# Altium schematic symbol library HerosLib.SchLib: 177 symbols (part 7 of 10)
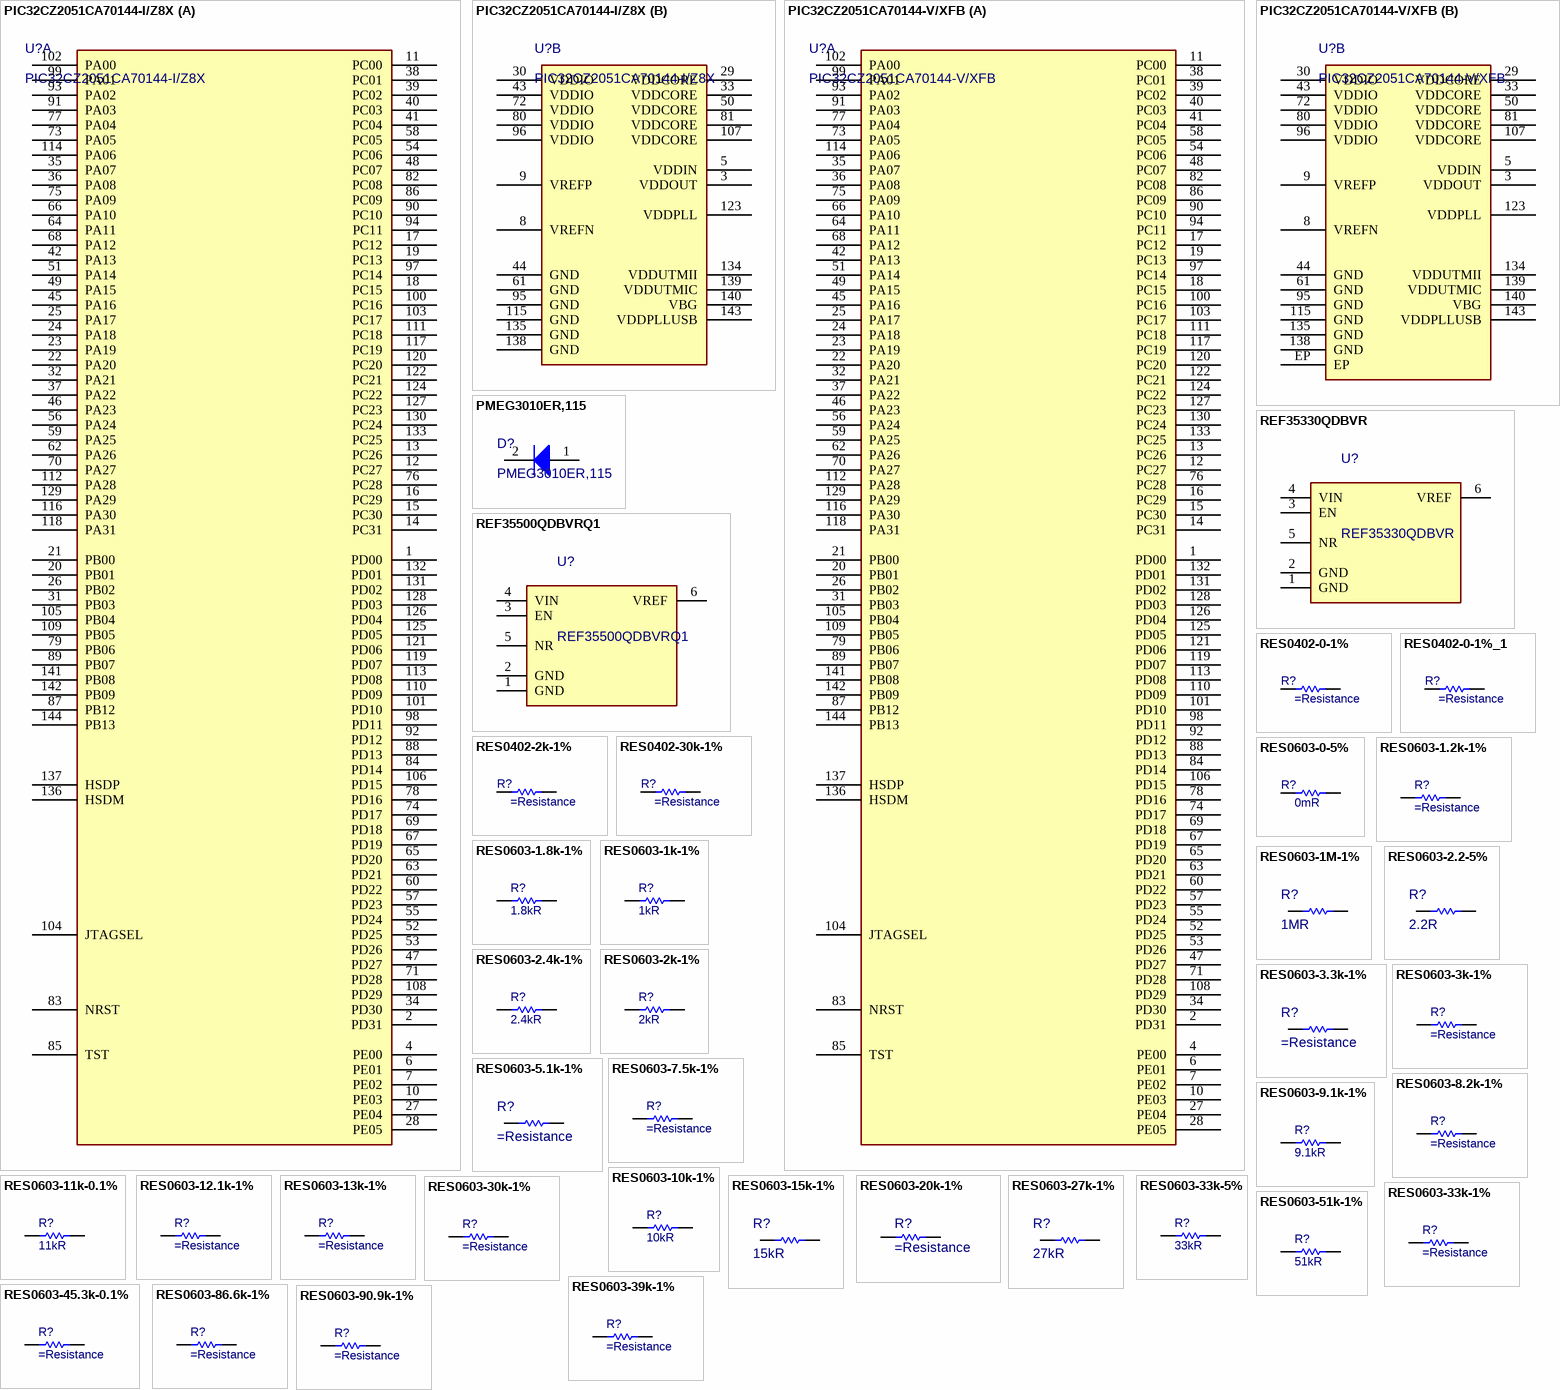
[diagram p14: symbols PIC32CZ2051CA70144-I/Z8X to RES0603-90.9k-1%]

## RES0603-10k-1%
designator R?, comment 10kR
RES SMD 10K OHM 1% 1/10W 0603; Manufacturer: Bourns; Manufacturer Part Number: CR0603-FX-1002ELF; Temperature Coefficient: 100ppm/°C; Max Power Dissipation: 100mW; Voltage Rating: 50V; ComponentLink1URL: https://datasheet.ciiva.com/9122/chpreztr-9122363.pdf; ComponentLink1Description: https://datasheet.ciiva.com/9122/chpreztr-9122363.pdf; ComponentLink2URL: https://datasheet.ciiva.com/22713/691949-22713239.pdf?src-supplier=Element14; ComponentLink2Description: https://datasheet.ciiva.com/22713/691949-22713239.pdf?src-supplier=Element14; ComponentLink3URL: https://datasheet.ciiva.com/23776/1902866-23776391.pdf?src-supplier=Newark; ComponentLink3Description: https://datasheet.ciiva.com/23776/1902866-23776391.pdf?src-supplier=Newark; ComponentLink4URL: https://datasheet.ciiva.com/16766/70154685-16766760.pdf?src-supplier=Allied+Electronics; ComponentLink4Description: https://datasheet.ciiva.com/16766/70154685-16766760.pdf?src-supplier=Allied+Electronics; ComponentLink5URL: https://datasheet.ciiva.com/30229/159chpreztr-30229129.pdf?src-supplier=Onlinecomponents.com; ComponentLink5Description: https://datasheet.ciiva.com/30229/159chpreztr-30229129.pdf?src-supplier=Onlinecomponents.com; ComponentLink6URL: https://datasheet.ciiva.com/16935/chpreztr-16935963.pdf?src-supplier=Avnet+Europe; ComponentLink6Description: https://datasheet.ciiva.com/16935/chpreztr-16935963.pdf?src-supplier=Avnet+Europe; ComponentLink7URL: https://datasheet.ciiva.com/5543/chpreztr-5543676.pdf?src-supplier=Mouser; ComponentLink7Description: https://datasheet.ciiva.com/5543/chpreztr-5543676.pdf?src-supplier=Mouser; ComponentLink8URL: https://datasheet.ciiva.com/9120/chpreztr-9120764.pdf?src-supplier=Avnet; ComponentLink8Description: https://datasheet.ciiva.com/9120/chpreztr-9120764.pdf?src-supplier=Avnet; ComponentLink9URL: https://datasheet.ciiva.com/46383/1791942-46383790.pdf?src-supplier=Element14; ComponentLink9Description: https://datasheet.ciiva.com/46383/1791942-46383790.pdf?src-supplier=Element14; ComponentLink10URL: https://datasheet.ciiva.com/48692/001055501-da-01-en-smd-wid-cr0603-jw-104elf-100k-ohm-1-10w-48692133.pdf?src-supplier=Conrad; ComponentLink10Description: https://datasheet.ciiva.com/48692/001055501-da-01-en-smd-wid-cr0603-jw-104elf-100k-ohm-1-10w-48692133.pdf?src-supplier=Conrad; ComponentLink11URL: https://datasheet.ciiva.com/39121/775172-39121475.pdf?src-supplier=Jameco; ComponentLink11Description: https://datasheet.ciiva.com/39121/775172-39121475.pdf?src-supplier=Jameco; ComponentLink12URL: https://datasheet.ciiva.com/30052/159chpreztr-30052709.pdf?src-supplier=Onlinecomponents.com; ComponentLink12Description: https://datasheet.ciiva.com/30052/159chpreztr-30052709.pdf?src-supplier=Onlinecomponents.com; ComponentLink13URL: https://datasheet.ciiva.com/16935/chpreztr-16935910.pdf?src-supplier=Avnet+Europe; ComponentLink13Description: https://datasheet.ciiva.com/16935/chpreztr-16935910.pdf?src-supplier=Avnet+Europe; ComponentLink14URL: https://datasheet.ciiva.com/46383/1791942-46383767.pdf?src-supplier=Element14; ComponentLink14Description: https://datasheet.ciiva.com/46383/1791942-46383767.pdf?src-supplier=Element14; ComponentLink15URL: https://datasheet.ciiva.com/7986/1902866-7986185.pdf?src-supplier=Element14; ComponentLink15Description: https://datasheet.ciiva.com/7986/1902866-7986185.pdf?src-supplier=Element14; ComponentLink16URL: https://datasheet.ciiva.com/6547/chpreztr-6547278.pdf?src-supplier=Digi-Key; ComponentLink16Description: https://datasheet.ciiva.com/6547/chpreztr-6547278.pdf?src-supplier=Digi-Key; ComponentLink17URL: https://datasheet.ciiva.com/6547/chpreztr-6547279.pdf?src-supplier=Digi-Key; ComponentLink17Description: https://datasheet.ciiva.com/6547/chpreztr-6547279.pdf?src-supplier=Digi-Key; ComponentLink18URL: https://datasheet.ciiva.com/16757/70154685-16757477.pdf?src-supplier=Allied+Electronics; ComponentLink18Description: https://datasheet.ciiva.com/16757/70154685-16757477.pdf?src-supplier=Allied+Electronics; ComponentLink19URL: https://datasheet.ciiva.com/22713/691949-22713237.pdf?src-supplier=Element14; ComponentLink19Description: https://datasheet.ciiva.com/22713/691949-22713237.pdf?src-supplier=Element14; ComponentLink20URL: https://datasheet.ciiva.com/6564/chpreztr-6564439.pdf?src-supplier=Digi-Key; ComponentLink20Description: https://datasheet.ciiva.com/6564/chpreztr-6564439.pdf?src-supplier=Digi-Key; ComponentLink21URL: https://datasheet.ciiva.com/16935/chpreztr-16935928.pdf?src-supplier=Avnet+Europe; ComponentLink21Description: https://datasheet.ciiva.com/16935/chpreztr-16935928.pdf?src-supplier=Avnet+Europe; ComponentLink22URL: https://datasheet.ciiva.com/6564/chpreztr-6564441.pdf?src-supplier=Digi-Key; ComponentLink22Description: https://datasheet.ciiva.com/6564/chpreztr-6564441.pdf?src-supplier=Digi-Key; ComponentLink23URL: https://datasheet.ciiva.com/9123/chpreztr-9123706.pdf?src-supplier=Avnet; ComponentLink23Description: https://datasheet.ciiva.com/9123/chpreztr-9123706.pdf?src-supplier=Avnet; ComponentLink24URL: https://datasheet.ciiva.com/7986/1902866-7986188.pdf?src-supplier=Element14; ComponentLink24Description: https://datasheet.ciiva.com/7986/1902866-7986188.pdf?src-supplier=Element14; ComponentLink25URL: https://datasheet.ciiva.com/46383/691949-46383788.pdf?src-supplier=Element14; ComponentLink25Description: https://datasheet.ciiva.com/46383/691949-46383788.pdf?src-supplier=Element14; ComponentLink26URL: https://datasheet.ciiva.com/11808/0900766b80fcdb72-11808035.pdf?src-supplier=RSComponents; ComponentLink26Description: https://datasheet.ciiva.com/11808/0900766b80fcdb72-11808035.pdf?src-supplier=RSComponents; ComponentLink27URL: https://datasheet.ciiva.com/19466/774882-19466523.pdf?src-supplier=Jameco; ComponentLink27Description: https://datasheet.ciiva.com/19466/774882-19466523.pdf?src-supplier=Jameco; ComponentLink28URL: https://datasheet.ciiva.com/6547/chpreztr-6547349.pdf?src-supplier=Digi-Key; ComponentLink28Description: https://datasheet.ciiva.com/6547/chpreztr-6547349.pdf?src-supplier=Digi-Key; ComponentLink29URL: https://datasheet.ciiva.com/16941/chpreztr-16941637.pdf?src-supplier=Avnet+Europe; ComponentLink29Description: https://datasheet.ciiva.com/16941/chpreztr-16941637.pdf?src-supplier=Avnet+Europe; ComponentLink30URL: https://datasheet.ciiva.com/22693/1902866-22693205.pdf?src-supplier=Element14; ComponentLink30Description: https://datasheet.ciiva.com/22693/1902866-22693205.pdf?src-supplier=Element14; ComponentLink31URL: https://datasheet.ciiva.com/6547/chpreztr-6547350.pdf?src-supplier=Digi-Key; ComponentLink31Description: https://datasheet.ciiva.com/6547/chpreztr-6547350.pdf?src-supplier=Digi-Key; ComponentLink32URL: https://datasheet.ciiva.com/7001/1902866-7001622.pdf?src-supplier=Newark; ComponentLink32Description: https://datasheet.ciiva.com/7001/1902866-7001622.pdf?src-supplier=Newark; ComponentLink33URL: https://datasheet.ciiva.com/30115/159chpreztr-30115222.pdf?src-supplier=Onlinecomponents.com; ComponentLink33Description: https://datasheet.ciiva.com/30115/159chpreztr-30115222.pdf?src-supplier=Onlinecomponents.com; ComponentLink34URL: https://datasheet.ciiva.com/6547/chpreztr-6547351.pdf?src-supplier=Digi-Key; ComponentLink34Description: https://datasheet.ciiva.com/6547/chpreztr-6547351.pdf?src-supplier=Digi-Key; ComponentLink35URL: https://datasheet.ciiva.com/16757/70154685-16757482.pdf?src-supplier=Allied+Electronics; ComponentLink35Description: https://datasheet.ciiva.com/16757/70154685-16757482.pdf?src-supplier=Allied+Electronics; ComponentLink36URL: https://datasheet.ciiva.com/5546/chpreztr-5546283.pdf?src-supplier=Mouser; ComponentLink36Description: https://datasheet.ciiva.com/5546/chpreztr-5546283.pdf?src-supplier=Mouser; ComponentLink37URL: https://datasheet.ciiva.com/7986/691949-7986156.pdf?src-supplier=Element14; ComponentLink37Description: https://datasheet.ciiva.com/7986/691949-7986156.pdf?src-supplier=Element14; ComponentLink38URL: https://datasheet.ciiva.com/3255/chpreztr-3255917.pdf?src-supplier=Avnet; ComponentLink38Description: https://datasheet.ciiva.com/3255/chpreztr-3255917.pdf?src-supplier=Avnet; ComponentLink39URL: https://datasheet.ciiva.com/5547/chpreztr-5547814.pdf?src-supplier=Mouser; ComponentLink39Description: https://datasheet.ciiva.com/5547/chpreztr-5547814.pdf?src-supplier=Mouser; ComponentLink40URL: https://datasheet.ciiva.com/18594/chpreztr-18594942.pdf?src-supplier=Digi-Key; ComponentLink40Description: https://datasheet.ciiva.com/18594/chpreztr-18594942.pdf?src-supplier=Digi-Key; ComponentLink41URL: https://datasheet.ciiva.com/18594/chpreztr-18594943.pdf?src-supplier=Digi-Key; ComponentLink41Description: https://datasheet.ciiva.com/18594/chpreztr-18594943.pdf?src-supplier=Digi-Key; ComponentLink42URL: https://datasheet.ciiva.com/18608/chpreztr-18608133.pdf?src-supplier=Digi-Key; ComponentLink42Description: https://datasheet.ciiva.com/18608/chpreztr-18608133.pdf?src-supplier=Digi-Key; ComponentLink43URL: https://datasheet.ciiva.com/18608/chpreztr-18608134.pdf?src-supplier=Digi-Key; ComponentLink43Description: https://datasheet.ciiva.com/18608/chpreztr-18608134.pdf?src-supplier=Digi-Key; ComponentLink44URL: https://datasheet.ciiva.com/16939/chpreztr-16939323.pdf?src-supplier=Avnet+Europe; ComponentLink44Description: https://datasheet.ciiva.com/16939/chpreztr-16939323.pdf?src-supplier=Avnet+Europe; ComponentLink45URL: https://datasheet.ciiva.com/5541/chpreztr-5541071.pdf?src-supplier=Mouser; ComponentLink45Description: https://datasheet.ciiva.com/5541/chpreztr-5541071.pdf?src-supplier=Mouser; Supplier 1: Digi-Key; RoHS: Yes; Category: Chip SMD Resistors; Stock 1: 7049; Pricing 1: 1=0,10000, 10=0,01600, 100=0,00650, 1000=0,00292, 2500=0,00253 (USD); Mount: Surface Mount; Case/Package: 0603; Number of Pins: 2; Contact Plating: Tin; Case Code (Metric): 1608; Case Code (Imperial): 0603; Min Operating Temperature: -55°C; Max Operating Temperature: 155°C; Tolerance: 1%; Resistance: 10kR; Composition: Thick Film; Features: Moisture Resistant; Packaging: Tape and Reel; Power Rating: 100mW; Package Quantity: 5000; Voltage Rating (DC): 50V; Number of Terminations: 2; Termination: SMD/SMT; Military Standard: Not; Length: 1.6mm; Height: 0.45mm; Width: 0.8mm; Thickness: 457um; Depth: 0.8mm; Radiation Hardening: No; REACH SVHC: No SVHC; ComponentLink46URL: https://datasheet.ciiva.com/11808/0900766b80fcdb72-11808032.pdf?src-supplier=RSComponents; ComponentLink46Description: https://datasheet.ciiva.com/11808/0900766b80fcdb72-11808032.pdf?src-supplier=RSComponents; ComponentLink47URL: https://datasheet.ciiva.com/27049/774903-27049975.pdf?src-supplier=Jameco; ComponentLink47Description: https://datasheet.ciiva.com/27049/774903-27049975.pdf?src-supplier=Jameco; ComponentLink48URL: https://datasheet.ciiva.com/22693/1902866-22693206.pdf?src-supplier=Element14; ComponentLink48Description: https://datasheet.ciiva.com/22693/1902866-22693206.pdf?src-supplier=Element14; ComponentLink49URL: https://datasheet.ciiva.com/7001/1902866-7001623.pdf?src-supplier=Newark; ComponentLink49Description: https://datasheet.ciiva.com/7001/1902866-7001623.pdf?src-supplier=Newark; ComponentLink50URL: https://datasheet.ciiva.com/16757/70154685-16757483.pdf?src-supplier=Allied+Electronics; ComponentLink50Description: https://datasheet.ciiva.com/16757/70154685-16757483.pdf?src-supplier=Allied+Electronics; ComponentLink51URL: https://datasheet.ciiva.com/22644/1849498-22644171.pdf?src-supplier=Element14; ComponentLink51Description: https://datasheet.ciiva.com/22644/1849498-22644171.pdf?src-supplier=Element14; ComponentLink52URL: https://datasheet.ciiva.com/16938/chpreztr-16938733.pdf?src-supplier=Avnet+Europe; ComponentLink52Description: https://datasheet.ciiva.com/16938/chpreztr-16938733.pdf?src-supplier=Avnet+Europe; ComponentLink53URL: https://datasheet.ciiva.com/3255/chpreztr-3255918.pdf?src-supplier=Avnet; ComponentLink53Description: https://datasheet.ciiva.com/3255/chpreztr-3255918.pdf?src-supplier=Avnet; ComponentLink54URL: https://datasheet.ciiva.com/5548/chpreztr-5548911.pdf?src-supplier=Mouser; ComponentLink54Description: https://datasheet.ciiva.com/5548/chpreztr-5548911.pdf?src-supplier=Mouser; Supplier Part Number 1: CR0603-FX-1002ELFCT-ND
footprint R0603 (Chip Resistor, 2-Leads, Body 1.75x0.95mm)
pins: 1, 2

## RES0603-11k-0.1%
designator R?, comment 11kR
RES 11K OHM 1% 1/10W 0603; Manufacturer: Yageo Group; Manufacturer Part Number: AC0603FR-1311KL; Power Dissipation: 100mW; Value: 11kΩ; Temperature Coefficient: 100ppm/°C; Voltage Rating: 75V; Resistance: 11kR; Supplier 1: DigiKey; Supplier Part Number 1: 13-AC0603FR-1311KLCT-ND; Supplier: DigiKey; Supplier Part Number: 13-AC0603FR-1311KLCT-ND; RoHS: Compliant; Category: Chip SMD Resistors; Stock: 39635; Pricing: 1=0,1, 10=0,026, 25=0,0192, 50=0,0154, 100=0,0126, 250=0,00976, 500=0,00818, 1000=0,00694, 5000=0,00497 (USD); Case/Package: 0603; China RoHS: Non-Compliant; Composition: Thick Film; Height: 450µm; Lifecycle Status: Production; Max Operating Temperature: 155°C; Min Operating Temperature: -55°C; Mounting Technology: Surface Mount; Number of Terminals: 2; Packaging: Tape & Reel; Power Rating: 100mW; REACH SVHC: Yes; Tolerance: 1%; Width: 800µm; Working Voltage: 75V; ComponentLink1URL: https://datasheet.octopart.com:443/AC0603FR-1311KL-Yageo-datasheet-182189377.pdf?src-supplier=IHS; ComponentLink1Description: https://datasheet.octopart.com:443/AC0603FR-1311KL-Yageo-datasheet-182189377.pdf?src-supplier=IHS; ComponentLink2URL: https://datasheet.octopart.com:443/AC0603FR-1311KL-Yageo-datasheet-86786639.pdf?src-supplier=Upverter; ComponentLink2Description: https://datasheet.octopart.com:443/AC0603FR-1311KL-Yageo-datasheet-86786639.pdf?src-supplier=Upverter; ComponentLink3URL: https://datasheet.octopart.com/AC0603FR-1311KL-Yageo-datasheet-12512238.pdf; ComponentLink3Description: https://datasheet.octopart.com/AC0603FR-1311KL-Yageo-datasheet-12512238.pdf; ComponentLink4URL: http://sigma.octopart.com:80/rohs_statement/Yageo-company-2.pdf?src-supplier=Compliance+Statements; ComponentLink4Description: http://sigma.octopart.com:80/rohs_statement/Yageo-company-2.pdf?src-supplier=Compliance+Statements; ComponentLink5URL: http://sigma.octopart.com:80/conflict_mineral_statement/Yageo-company-3.pdf?src-supplier=Compliance+Statements; ComponentLink5Description: http://sigma.octopart.com:80/conflict_mineral_statement/Yageo-company-3.pdf?src-supplier=Compliance+Statements
footprint R0603 (Chip Resistor, 2-Leads, Body 1.75x0.95mm)
pins: 1, 2

## RES0603-12.1k-1%
designator R?
RES 12.1K OHM 1% 1/10W 0603; Manufacturer: Yageo Group; Manufacturer Part Number: AC0603FR-1312K1L; Resistance: 12.1kΩ; Power Dissipation: 100mW; Value: 12.1kΩ; Temperature Coefficient: 100ppm/°C; Voltage Rating: 75V; Supplier 1: DigiKey; Supplier Part Number 1: 13-AC0603FR-1312K1L-ND; Supplier: DigiKey; Supplier Part Number: 13-AC0603FR-1312K1L-ND; RoHS: Compliant; Category: Chip SMD Resistors; Pricing: 20000=0,00366 (USD); Case/Package: 0603; China RoHS: Non-Compliant; Composition: Thick Film; Height: 450µm; Lifecycle Status: Production; Max Operating Temperature: 155°C; Min Operating Temperature: -55°C; Mounting Technology: Surface Mount; Number of Terminals: 2; Packaging: Tape & Reel; Power Rating: 100mW; REACH SVHC: Yes; Tolerance: 1%; Width: 800µm; Working Voltage: 75V; ComponentLink1URL: https://datasheet.octopart.com:443/AC0603FR-1312K1L-Yageo-datasheet-182189377.pdf?src-supplier=IHS; ComponentLink1Description: https://datasheet.octopart.com:443/AC0603FR-1312K1L-Yageo-datasheet-182189377.pdf?src-supplier=IHS; ComponentLink2URL: https://datasheet.octopart.com:443/AC0603FR-1312K1L-Yageo-datasheet-86786639.pdf?src-supplier=Upverter; ComponentLink2Description: https://datasheet.octopart.com:443/AC0603FR-1312K1L-Yageo-datasheet-86786639.pdf?src-supplier=Upverter; ComponentLink3URL: https://datasheet.octopart.com:443/AC0603FR-1312K1L-Yageo-datasheet-166720450.pdf?src-supplier=Future+Electronics; ComponentLink3Description: https://datasheet.octopart.com:443/AC0603FR-1312K1L-Yageo-datasheet-166720450.pdf?src-supplier=Future+Electronics; ComponentLink4URL: https://datasheet.octopart.com:443/AC0603FR-1312K1L-Yageo-datasheet-164768995.pdf?src-supplier=Future+Electronics; ComponentLink4Description: https://datasheet.octopart.com:443/AC0603FR-1312K1L-Yageo-datasheet-164768995.pdf?src-supplier=Future+Electronics; ComponentLink5URL: https://datasheet.octopart.com/AC0603FR-1312K1L-Yageo-datasheet-12512238.pdf; ComponentLink5Description: https://datasheet.octopart.com/AC0603FR-1312K1L-Yageo-datasheet-12512238.pdf; ComponentLink6URL: http://sigma.octopart.com:80/conflict_mineral_statement/Yageo-company-3.pdf?src-supplier=Compliance+Statements; ComponentLink6Description: http://sigma.octopart.com:80/conflict_mineral_statement/Yageo-company-3.pdf?src-supplier=Compliance+Statements; ComponentLink7URL: http://sigma.octopart.com:80/rohs_statement/Yageo-company-2.pdf?src-supplier=Compliance+Statements; ComponentLink7Description: http://sigma.octopart.com:80/rohs_statement/Yageo-company-2.pdf?src-supplier=Compliance+Statements
footprint R0603 (Chip Resistor, 2-Leads, Body 1.75x0.95mm)
pins: 1, 2

## RES0603-13k-1%
designator R?
RES 13K OHM 1% 1/10W 0603; Manufacturer: Yageo Group; Manufacturer Part Number: RT0603FRE1013KL; Resistance: 13kΩ; Power Dissipation: 100mW; Value: 13kΩ; Temperature Coefficient: 50ppm/°C; Voltage Rating: 75V; Supplier 1: DigiKey; Supplier Part Number 1: 13-RT0603FRE1013KL-ND; Supplier: DigiKey; Supplier Part Number: 13-RT0603FRE1013KL-ND; RoHS: Compliant; Category: Chip SMD Resistors; Pricing: 10000=0,00779 (USD); Case/Package: 0603; China RoHS: Non-Compliant; Composition: Thin Film; Contact Plating: Tin; Height: 450µm; Lifecycle Status: Production; Max Operating Temperature: 155°C; Min Operating Temperature: -55°C; Mounting Technology: Surface Mount; Number of Terminals: 2; Packaging: Tape & Reel; Power Rating: 100mW; Radiation Hardening: No; REACH SVHC: Yes; Tolerance: 1%; Width: 800µm; Working Voltage: 75V; ComponentLink1URL: https://datasheet.octopart.com:443/RT0603FRE1013KL-Yageo-datasheet-176402239.pdf?src-supplier=IHS; ComponentLink1Description: https://datasheet.octopart.com:443/RT0603FRE1013KL-Yageo-datasheet-176402239.pdf?src-supplier=IHS; ComponentLink2URL: https://datasheet.octopart.com:443/RT0603FRE1013KL-Yageo-datasheet-96443642.pdf?src-supplier=Upverter; ComponentLink2Description: https://datasheet.octopart.com:443/RT0603FRE1013KL-Yageo-datasheet-96443642.pdf?src-supplier=Upverter; ComponentLink3URL: https://datasheet.octopart.com/RT0603FRE1013KL-Yageo-datasheet-86813807.pdf; ComponentLink3Description: https://datasheet.octopart.com/RT0603FRE1013KL-Yageo-datasheet-86813807.pdf; ComponentLink4URL: http://sigma.octopart.com:80/conflict_mineral_statement/Yageo-company-3.pdf?src-supplier=Compliance+Statements; ComponentLink4Description: http://sigma.octopart.com:80/conflict_mineral_statement/Yageo-company-3.pdf?src-supplier=Compliance+Statements; ComponentLink5URL: http://sigma.octopart.com:80/rohs_statement/Yageo-company-2.pdf?src-supplier=Compliance+Statements; ComponentLink5Description: http://sigma.octopart.com:80/rohs_statement/Yageo-company-2.pdf?src-supplier=Compliance+Statements
footprint R0603 (Chip Resistor, 2-Leads, Body 1.75x0.95mm)
pins: 1, 2

## RES0603-15k-1%
designator R?, comment 15kR
RES SMD 15K OHM 1% 1/10W 0603; Manufacturer: TE Connectivity; Manufacturer Part Number: CRG0603F15K; Power Rating: 100mW; Temperature Coefficient: 100ppm/°C; Number of Resistors: 1; Voltage Rating: 50V; Supplier 1: Digi-Key; RoHS: Yes; Category: Chip SMD Resistors; Stock 1: 30909; Pricing 1: 1=0.10000, 10=0.03200, 100=0.01300, 1000=0.00582, 2500=0.00505 (USD); Mount: Surface Mount; Case/Package: 0603; Case Code (Imperial): 0603; Weight: 7.1E-05oz; Min Operating Temperature: -55°C; Max Operating Temperature: 125°C; Packaging: Tape and Reel; Resistance: 15kR; Tolerance: 1%; Package Quantity: 5000; Resistor Type: Thick Film; Number of Terminations: 2; Max Power Dissipation: 100mW; Termination: Solder; Series: CRG, Neohm; Technology: THICK FILM; Construction: Rectangular; Length: 1.6mm; Width: 0.031inch; Height: 0.45mm; Depth: 0.8mm; Radiation Hardening: No; Military Standard: Not; ELV: Compliant; RoHS Compliant: Yes; ComponentLink1URL: https://datasheet.ciiva.com/11809/0900766b800a696e-11809156.pdf?src-supplier=RSComponents; ComponentLink1Description: https://datasheet.ciiva.com/11809/0900766b800a696e-11809156.pdf?src-supplier=RSComponents; ComponentLink2URL: https://datasheet.ciiva.com/2529/eng-cd-1622853-ba-2529783.pdf?src-supplier=Digi-Key; ComponentLink2Description: https://datasheet.ciiva.com/2529/eng-cd-1622853-ba-2529783.pdf?src-supplier=Digi-Key; ComponentLink3URL: https://datasheet.ciiva.com/8910/eng-ds-1773204-f-8910587.pdf?src-supplier=Avnet; ComponentLink3Description: https://datasheet.ciiva.com/8910/eng-ds-1773204-f-8910587.pdf?src-supplier=Avnet; Supplier Part Number 1: A121558CT-ND
footprint R0603 (Chip Resistor, 2-Leads, Body 1.75x0.95mm)
pins: 1, 2

## RES0603-20k-1%
designator R?
RES 20K OHM 0.1% 1/10W 0603; Manufacturer: Yageo Group; Manufacturer Part Number: RT0603BRD1320KL; Resistance: 20kΩ; Power Dissipation: 100mW; Value: 20kΩ; Temperature Coefficient: 25ppm/°C; Voltage Rating: 75V; Supplier 1: DigiKey; Supplier Part Number 1: 13-RT0603BRD1320KL-ND; Supplier: DigiKey; Supplier Part Number: 13-RT0603BRD1320KL-ND; RoHS: Compliant; Category: Chip SMD Resistors; Pricing: 20000=0,03119 (USD); Case/Package: 0603; Case Code (Imperial): 0603; Case Code (Metric): 1608; China RoHS: Non-Compliant; Composition: Thin Film; Height: 450µm; Lifecycle Status: Production; Max Operating Temperature: 155°C; Min Operating Temperature: -55°C; Mounting Technology: Surface Mount; Number of Terminals: 2; Packaging: Tape & Reel; Power Rating: 100mW; REACH SVHC: Yes; Tolerance: 0.1%; Width: 800µm; Working Voltage: 75V; ComponentLink1URL: https://datasheet.octopart.com:443/RT0603BRD1320KL-Yageo-datasheet-176402239.pdf?src-supplier=IHS; ComponentLink1Description: https://datasheet.octopart.com:443/RT0603BRD1320KL-Yageo-datasheet-176402239.pdf?src-supplier=IHS; ComponentLink2URL: https://datasheet.octopart.com:443/RT0603BRD1320KL-Yageo-datasheet-96443642.pdf?src-supplier=Upverter; ComponentLink2Description: https://datasheet.octopart.com:443/RT0603BRD1320KL-Yageo-datasheet-96443642.pdf?src-supplier=Upverter; ComponentLink3URL: https://datasheet.octopart.com/RT0603BRD1320KL-Yageo-datasheet-86813807.pdf; ComponentLink3Description: https://datasheet.octopart.com/RT0603BRD1320KL-Yageo-datasheet-86813807.pdf; ComponentLink4URL: http://sigma.octopart.com:80/conflict_mineral_statement/Yageo-company-3.pdf?src-supplier=Compliance+Statements; ComponentLink4Description: http://sigma.octopart.com:80/conflict_mineral_statement/Yageo-company-3.pdf?src-supplier=Compliance+Statements; ComponentLink5URL: http://sigma.octopart.com:80/rohs_statement/Yageo-company-2.pdf?src-supplier=Compliance+Statements; ComponentLink5Description: http://sigma.octopart.com:80/rohs_statement/Yageo-company-2.pdf?src-supplier=Compliance+Statements
footprint R0603 (Chip Resistor, 2-Leads, Body 1.75x0.95mm)
pins: 1, 2

## RES0603-27k-1%
designator R?, comment 27kR
RES SMD 27K OHM 1% 1/10W 0603; Manufacturer: Yageo; Manufacturer Part Number: RT0603FRE0727KL; Temperature Coefficient: 50ppm/°C; Voltage Rating: 75V; Power Rating: 100mW; Supplier 1: Digi-Key; RoHS: Yes; Category: Chip SMD Resistors; Stock 1: 1393; Pricing 1: 1=0.10000, 10=0.05600, 100=0.02270, 1000=0.01020, 2500=0.00886 (USD); Case/Package: 0603; Number of Pins: 2; Contact Plating: Tin,Lead; Case Code (Metric): 1608; Case Code (Imperial): 0603; Min Operating Temperature: -55°C; Max Operating Temperature: 125°C; Resistance: 27kR; Tolerance: 1%; Resistor Type: Thin Film; Packaging: Tape and Reel; Package Quantity: 5000; Termination: SMD/SMT; Number of Terminations: 2; Max Power Dissipation: 100mW; Voltage Rating (DC): 75V; Series: RT; Resistance Tolerance: 1%; Construction: Rectangular; Length: 0.063inch; Width: 0.031inch; Height: 0.022inch; Depth: 0.8mm; REACH SVHC: No SVHC; Military Standard: Not; Lead Free: Lead Free; RoHS Compliant: Yes; ComponentLink1URL: https://datasheet.ciiva.com/12706/pyu-rt-1-to-0-05-rohs-l-4-12706134.pdf?src-supplier=Mouser; ComponentLink1Description: https://datasheet.ciiva.com/12706/pyu-rt-1-to-0-05-rohs-l-4-12706134.pdf?src-supplier=Mouser; ComponentLink2URL: https://datasheet.ciiva.com/6168/442970-6168552.pdf?src-supplier=Farnell; ComponentLink2Description: https://datasheet.ciiva.com/6168/442970-6168552.pdf?src-supplier=Farnell; ComponentLink3URL: https://datasheet.ciiva.com/7746/442970-7746638.pdf?src-supplier=Element14; ComponentLink3Description: https://datasheet.ciiva.com/7746/442970-7746638.pdf?src-supplier=Element14; ComponentLink4URL: https://datasheet.ciiva.com/2559/pyu-rt-1-to-0-05-rohs-l-5-2559695.pdf?src-supplier=Digi-Key; ComponentLink4Description: https://datasheet.ciiva.com/2559/pyu-rt-1-to-0-05-rohs-l-5-2559695.pdf?src-supplier=Digi-Key; ComponentLink5URL: https://datasheet.ciiva.com/7746/442970-7746639.pdf?src-supplier=Element14; ComponentLink5Description: https://datasheet.ciiva.com/7746/442970-7746639.pdf?src-supplier=Element14; Supplier Part Number 1: YAG5952CT-ND
footprint R0603 (Chip Resistor, 2-Leads, Body 1.75x0.95mm)
pins: 1, 2

## RES0603-30k-1%
designator R?
RES SMD 30K OHM 0.1% 1/10W 0603; Manufacturer: Yageo Group; Manufacturer Part Number: RT0603BRE0730KL; Resistance: 30kΩ; Max Power Dissipation: 100mW; Value: 30kΩ; Temperature Coefficient: 50ppm/°C; Voltage Rating: 75V; Voltage Rating (DC): 50V; Supplier 1: DigiKey; Supplier Part Number 1: YAG4697CT-ND; Supplier: DigiKey; Supplier Part Number: YAG4697CT-ND; RoHS: Compliant; Category: Chip SMD Resistors; Stock: 8303; Pricing: 1=0,18, 10=0,099, 25=0,0884, 50=0,0776, 100=0,0734, 250=0,06936, 500=0,05584 (USD); Case/Package: 0603; Case Code (Metric): 0603; China RoHS: Non-Compliant; Composition: Thin Film; Depth: 800µm; Height: 450µm; Lead Free: Lead Free; Length: 1.6002mm; Lifecycle Status: Production; Max Operating Temperature: 155°C; Military Standard: Not; Min Operating Temperature: -55°C; Mounting Technology: Surface Mount; Number of Terminals: 2; Number of Terminations: 2; Packaging: Tape & Reel (TR); Power Dissipation: 100mW; Power Rating: 100mW; REACH SVHC: Yes; Tolerance: 0.1%; Width: 800µm; Working Voltage: 75V; ComponentLink1URL: https://datasheet.octopart.com:443/RT0603BRE0730KL-Yageo-datasheet-176402239.pdf?src-supplier=IHS; ComponentLink1Description: https://datasheet.octopart.com:443/RT0603BRE0730KL-Yageo-datasheet-176402239.pdf?src-supplier=IHS; ComponentLink2URL: https://datasheet.octopart.com:443/RT0603BRE0730KL-Yageo-datasheet-96443642.pdf?src-supplier=Upverter; ComponentLink2Description: https://datasheet.octopart.com:443/RT0603BRE0730KL-Yageo-datasheet-96443642.pdf?src-supplier=Upverter; ComponentLink3URL: https://datasheet.octopart.com:443/RT0603BRE0730KL-Yageo-datasheet-169971040.pdf?src-supplier=Future+Electronics; ComponentLink3Description: https://datasheet.octopart.com:443/RT0603BRE0730KL-Yageo-datasheet-169971040.pdf?src-supplier=Future+Electronics; ComponentLink4URL: https://datasheet.octopart.com:443/RT0603BRE0730KL-Yageo-datasheet-166250672.pdf?src-supplier=Future+Electronics; ComponentLink4Description: https://datasheet.octopart.com:443/RT0603BRE0730KL-Yageo-datasheet-166250672.pdf?src-supplier=Future+Electronics; ComponentLink5URL: https://datasheet.octopart.com:443/RT0603BRE0730KL-Yageo-datasheet-137700930.pdf?src-supplier=Future+Electronics; ComponentLink5Description: https://datasheet.octopart.com:443/RT0603BRE0730KL-Yageo-datasheet-137700930.pdf?src-supplier=Future+Electronics; ComponentLink6URL: https://datasheet.octopart.com:443/RT0603BRE0730KL-Yageo-Group-datasheet-141265893.pdf?src-supplier=ODG+(Origin+Data+Global); ComponentLink6Description: https://datasheet.octopart.com:443/RT0603BRE0730KL-Yageo-Group-datasheet-141265893.pdf?src-supplier=ODG+(Origin+Data+Global); ComponentLink7URL: https://datasheet.octopart.com/RT0603BRE0730KL-Yageo-datasheet-86813807.pdf; ComponentLink7Description: https://datasheet.octopart.com/RT0603BRE0730KL-Yageo-datasheet-86813807.pdf; ComponentLink8URL: http://sigma.octopart.com:80/rohs_statement/Yageo-company-2.pdf?src-supplier=Compliance+Statements; ComponentLink8Description: http://sigma.octopart.com:80/rohs_statement/Yageo-company-2.pdf?src-supplier=Compliance+Statements; ComponentLink9URL: http://sigma.octopart.com:80/conflict_mineral_statement/Yageo-company-3.pdf?src-supplier=Compliance+Statements; ComponentLink9Description: http://sigma.octopart.com:80/conflict_mineral_statement/Yageo-company-3.pdf?src-supplier=Compliance+Statements
footprint R0603 (Chip Resistor, 2-Leads, Body 1.75x0.95mm)
pins: 1, 2

## RES0603-33k-1%
designator R?
RES 33K OHM 1% 1/10W 0603; Manufacturer: Yageo Group; Manufacturer Part Number: RT0603FRE1333KL; Resistance: 33kΩ; Power Dissipation: 100mW; Value: 33kΩ; Temperature Coefficient: 50ppm/°C; Voltage Rating: 75V; Supplier 1: DigiKey; Supplier Part Number 1: 13-RT0603FRE1333KL-ND; Supplier: DigiKey; Supplier Part Number: 13-RT0603FRE1333KL-ND; RoHS: Compliant; Category: Chip SMD Resistors; Pricing: 20000=0,00689 (USD); Case/Package: 0603; China RoHS: Non-Compliant; Composition: Thin Film; Height: 450µm; Lifecycle Status: Production; Max Operating Temperature: 155°C; Min Operating Temperature: -55°C; Mounting Technology: Surface Mount; Number of Terminals: 2; Packaging: Tape & Reel; Power Rating: 100mW; REACH SVHC: Yes; Tolerance: 1%; Width: 800µm; Working Voltage: 75V
footprint R0603 (Chip Resistor, 2-Leads, Body 1.75x0.95mm)
pins: 1, 2

## RES0603-33k-5%
designator R?, comment 33kR
RES SMD 33K OHM 5% 1/10W 0603; Manufacturer: Bourns; Manufacturer Part Number: CR0603-JW-333ELF; Temperature Coefficient: 200ppm/°C; Power Rating: 100mW; Voltage Rating: 50V; ComponentLink1URL: https://datasheet.ciiva.com/9122/chpreztr-9122363.pdf; ComponentLink1Description: https://datasheet.ciiva.com/9122/chpreztr-9122363.pdf; ComponentLink2URL: https://datasheet.ciiva.com/22713/691949-22713239.pdf?src-supplier=Element14; ComponentLink2Description: https://datasheet.ciiva.com/22713/691949-22713239.pdf?src-supplier=Element14; ComponentLink3URL: https://datasheet.ciiva.com/23776/1902866-23776391.pdf?src-supplier=Newark; ComponentLink3Description: https://datasheet.ciiva.com/23776/1902866-23776391.pdf?src-supplier=Newark; ComponentLink4URL: https://datasheet.ciiva.com/16766/70154685-16766760.pdf?src-supplier=Allied+Electronics; ComponentLink4Description: https://datasheet.ciiva.com/16766/70154685-16766760.pdf?src-supplier=Allied+Electronics; ComponentLink5URL: https://datasheet.ciiva.com/30229/159chpreztr-30229129.pdf?src-supplier=Onlinecomponents.com; ComponentLink5Description: https://datasheet.ciiva.com/30229/159chpreztr-30229129.pdf?src-supplier=Onlinecomponents.com; ComponentLink6URL: https://datasheet.ciiva.com/16935/chpreztr-16935963.pdf?src-supplier=Avnet+Europe; ComponentLink6Description: https://datasheet.ciiva.com/16935/chpreztr-16935963.pdf?src-supplier=Avnet+Europe; ComponentLink7URL: https://datasheet.ciiva.com/5543/chpreztr-5543676.pdf?src-supplier=Mouser; ComponentLink7Description: https://datasheet.ciiva.com/5543/chpreztr-5543676.pdf?src-supplier=Mouser; ComponentLink8URL: https://datasheet.ciiva.com/9120/chpreztr-9120764.pdf?src-supplier=Avnet; ComponentLink8Description: https://datasheet.ciiva.com/9120/chpreztr-9120764.pdf?src-supplier=Avnet; ComponentLink9URL: https://datasheet.ciiva.com/46383/1791942-46383790.pdf?src-supplier=Element14; ComponentLink9Description: https://datasheet.ciiva.com/46383/1791942-46383790.pdf?src-supplier=Element14; ComponentLink10URL: https://datasheet.ciiva.com/48692/001055501-da-01-en-smd-wid-cr0603-jw-104elf-100k-ohm-1-10w-48692133.pdf?src-supplier=Conrad; ComponentLink10Description: https://datasheet.ciiva.com/48692/001055501-da-01-en-smd-wid-cr0603-jw-104elf-100k-ohm-1-10w-48692133.pdf?src-supplier=Conrad; ComponentLink11URL: https://datasheet.ciiva.com/39121/775172-39121475.pdf?src-supplier=Jameco; ComponentLink11Description: https://datasheet.ciiva.com/39121/775172-39121475.pdf?src-supplier=Jameco; ComponentLink12URL: https://datasheet.ciiva.com/30052/159chpreztr-30052709.pdf?src-supplier=Onlinecomponents.com; ComponentLink12Description: https://datasheet.ciiva.com/30052/159chpreztr-30052709.pdf?src-supplier=Onlinecomponents.com; ComponentLink13URL: https://datasheet.ciiva.com/16935/chpreztr-16935910.pdf?src-supplier=Avnet+Europe; ComponentLink13Description: https://datasheet.ciiva.com/16935/chpreztr-16935910.pdf?src-supplier=Avnet+Europe; ComponentLink14URL: https://datasheet.ciiva.com/46383/1791942-46383767.pdf?src-supplier=Element14; ComponentLink14Description: https://datasheet.ciiva.com/46383/1791942-46383767.pdf?src-supplier=Element14; ComponentLink15URL: https://datasheet.ciiva.com/7986/1902866-7986185.pdf?src-supplier=Element14; ComponentLink15Description: https://datasheet.ciiva.com/7986/1902866-7986185.pdf?src-supplier=Element14; ComponentLink16URL: https://datasheet.ciiva.com/6547/chpreztr-6547278.pdf?src-supplier=Digi-Key; ComponentLink16Description: https://datasheet.ciiva.com/6547/chpreztr-6547278.pdf?src-supplier=Digi-Key; ComponentLink17URL: https://datasheet.ciiva.com/6547/chpreztr-6547279.pdf?src-supplier=Digi-Key; ComponentLink17Description: https://datasheet.ciiva.com/6547/chpreztr-6547279.pdf?src-supplier=Digi-Key; ComponentLink18URL: https://datasheet.ciiva.com/16757/70154685-16757477.pdf?src-supplier=Allied+Electronics; ComponentLink18Description: https://datasheet.ciiva.com/16757/70154685-16757477.pdf?src-supplier=Allied+Electronics; ComponentLink19URL: https://datasheet.ciiva.com/22713/691949-22713237.pdf?src-supplier=Element14; ComponentLink19Description: https://datasheet.ciiva.com/22713/691949-22713237.pdf?src-supplier=Element14; ComponentLink20URL: https://datasheet.ciiva.com/6564/chpreztr-6564439.pdf?src-supplier=Digi-Key; ComponentLink20Description: https://datasheet.ciiva.com/6564/chpreztr-6564439.pdf?src-supplier=Digi-Key; ComponentLink21URL: https://datasheet.ciiva.com/16935/chpreztr-16935928.pdf?src-supplier=Avnet+Europe; ComponentLink21Description: https://datasheet.ciiva.com/16935/chpreztr-16935928.pdf?src-supplier=Avnet+Europe; ComponentLink22URL: https://datasheet.ciiva.com/6564/chpreztr-6564441.pdf?src-supplier=Digi-Key; ComponentLink22Description: https://datasheet.ciiva.com/6564/chpreztr-6564441.pdf?src-supplier=Digi-Key; ComponentLink23URL: https://datasheet.ciiva.com/9123/chpreztr-9123706.pdf?src-supplier=Avnet; ComponentLink23Description: https://datasheet.ciiva.com/9123/chpreztr-9123706.pdf?src-supplier=Avnet; ComponentLink24URL: https://datasheet.ciiva.com/7986/1902866-7986188.pdf?src-supplier=Element14; ComponentLink24Description: https://datasheet.ciiva.com/7986/1902866-7986188.pdf?src-supplier=Element14; ComponentLink25URL: https://datasheet.ciiva.com/46383/691949-46383788.pdf?src-supplier=Element14; ComponentLink25Description: https://datasheet.ciiva.com/46383/691949-46383788.pdf?src-supplier=Element14; ComponentLink26URL: https://datasheet.ciiva.com/11808/0900766b80fcdb72-11808035.pdf?src-supplier=RSComponents; ComponentLink26Description: https://datasheet.ciiva.com/11808/0900766b80fcdb72-11808035.pdf?src-supplier=RSComponents; ComponentLink27URL: https://datasheet.ciiva.com/19466/774882-19466523.pdf?src-supplier=Jameco; ComponentLink27Description: https://datasheet.ciiva.com/19466/774882-19466523.pdf?src-supplier=Jameco; ComponentLink28URL: https://datasheet.ciiva.com/6547/chpreztr-6547349.pdf?src-supplier=Digi-Key; ComponentLink28Description: https://datasheet.ciiva.com/6547/chpreztr-6547349.pdf?src-supplier=Digi-Key; ComponentLink29URL: https://datasheet.ciiva.com/16941/chpreztr-16941637.pdf?src-supplier=Avnet+Europe; ComponentLink29Description: https://datasheet.ciiva.com/16941/chpreztr-16941637.pdf?src-supplier=Avnet+Europe; ComponentLink30URL: https://datasheet.ciiva.com/22693/1902866-22693205.pdf?src-supplier=Element14; ComponentLink30Description: https://datasheet.ciiva.com/22693/1902866-22693205.pdf?src-supplier=Element14; ComponentLink31URL: https://datasheet.ciiva.com/6547/chpreztr-6547350.pdf?src-supplier=Digi-Key; ComponentLink31Description: https://datasheet.ciiva.com/6547/chpreztr-6547350.pdf?src-supplier=Digi-Key; ComponentLink32URL: https://datasheet.ciiva.com/7001/1902866-7001622.pdf?src-supplier=Newark; ComponentLink32Description: https://datasheet.ciiva.com/7001/1902866-7001622.pdf?src-supplier=Newark; ComponentLink33URL: https://datasheet.ciiva.com/30115/159chpreztr-30115222.pdf?src-supplier=Onlinecomponents.com; ComponentLink33Description: https://datasheet.ciiva.com/30115/159chpreztr-30115222.pdf?src-supplier=Onlinecomponents.com; ComponentLink34URL: https://datasheet.ciiva.com/6547/chpreztr-6547351.pdf?src-supplier=Digi-Key; ComponentLink34Description: https://datasheet.ciiva.com/6547/chpreztr-6547351.pdf?src-supplier=Digi-Key; ComponentLink35URL: https://datasheet.ciiva.com/16757/70154685-16757482.pdf?src-supplier=Allied+Electronics; ComponentLink35Description: https://datasheet.ciiva.com/16757/70154685-16757482.pdf?src-supplier=Allied+Electronics; ComponentLink36URL: https://datasheet.ciiva.com/5546/chpreztr-5546283.pdf?src-supplier=Mouser; ComponentLink36Description: https://datasheet.ciiva.com/5546/chpreztr-5546283.pdf?src-supplier=Mouser; ComponentLink37URL: https://datasheet.ciiva.com/7986/691949-7986156.pdf?src-supplier=Element14; ComponentLink37Description: https://datasheet.ciiva.com/7986/691949-7986156.pdf?src-supplier=Element14; ComponentLink38URL: https://datasheet.ciiva.com/3255/chpreztr-3255917.pdf?src-supplier=Avnet; ComponentLink38Description: https://datasheet.ciiva.com/3255/chpreztr-3255917.pdf?src-supplier=Avnet; ComponentLink39URL: https://datasheet.ciiva.com/5547/chpreztr-5547814.pdf?src-supplier=Mouser; ComponentLink39Description: https://datasheet.ciiva.com/5547/chpreztr-5547814.pdf?src-supplier=Mouser; ComponentLink40URL: https://datasheet.ciiva.com/18594/chpreztr-18594942.pdf?src-supplier=Digi-Key; ComponentLink40Description: https://datasheet.ciiva.com/18594/chpreztr-18594942.pdf?src-supplier=Digi-Key; ComponentLink41URL: https://datasheet.ciiva.com/18594/chpreztr-18594943.pdf?src-supplier=Digi-Key; ComponentLink41Description: https://datasheet.ciiva.com/18594/chpreztr-18594943.pdf?src-supplier=Digi-Key; ComponentLink42URL: https://datasheet.ciiva.com/18594/chpreztr-18594922.pdf?src-supplier=Digi-Key; ComponentLink42Description: https://datasheet.ciiva.com/18594/chpreztr-18594922.pdf?src-supplier=Digi-Key; ComponentLink43URL: https://datasheet.ciiva.com/18594/chpreztr-18594923.pdf?src-supplier=Digi-Key; ComponentLink43Description: https://datasheet.ciiva.com/18594/chpreztr-18594923.pdf?src-supplier=Digi-Key; Supplier 1: Digi-Key; RoHS: Yes; Category: Chip SMD Resistors; Stock 1: 12735; Pricing 1: 1=0,10000, 10=0,03200, 25=0,02320, 50=0,01760, 100=0,01300, 250=0,00992, 500=0,00792, 1000=0,00583 (USD); Mount: Surface Mount; Case/Package: 0603; Case Code (Imperial): 0603; Case Code (Metric): 1608; Contact Plating: Tin; Min Operating Temperature: -55°C; Max Operating Temperature: 155°C; Termination: SMD/SMT; Military Standard: Not; Composition: Thick Film; Resistance: 33kR; Packaging: Tape and Reel; Tolerance: 5%; Package Quantity: 5000; Length: 1.6mm; Height: 0.45mm; Thickness: 457um; Depth: 0.8mm; Width: 0.8mm; ComponentLink44URL: https://datasheet.ciiva.com/5541/chpreztr-5541706.pdf?src-supplier=Mouser; ComponentLink44Description: https://datasheet.ciiva.com/5541/chpreztr-5541706.pdf?src-supplier=Mouser; ComponentLink45URL: https://datasheet.ciiva.com/9121/chpreztr-9121566.pdf?src-supplier=Avnet; ComponentLink45Description: https://datasheet.ciiva.com/9121/chpreztr-9121566.pdf?src-supplier=Avnet; Supplier Part Number 1: CR0603-JW-333ELFCT-ND
footprint R0603 (Chip Resistor, 2-Leads, Body 1.75x0.95mm)
pins: 1, 2

## RES0603-39k-1%
designator R?
RES SMD 39K OHM 1% 1/10W 0603; Manufacturer: Yageo Group; Manufacturer Part Number: AF0603FR-0739KL; Resistance: 39kΩ; Max Power Dissipation: 100mW; Value: 39kΩ; Temperature Coefficient: 100ppm/°C; Voltage Rating: 75V; Supplier 1: DigiKey; Supplier Part Number 1: 13-AF0603FR-0739KLCT-ND; Supplier: DigiKey; Supplier Part Number: 13-AF0603FR-0739KLCT-ND; RoHS: Compliant; Category: Chip SMD Resistors; Stock: 6364; Pricing: 1=0,1, 10=0,018, 25=0,0164, 50=0,0142, 100=0,0133, 250=0,01172 (USD); Case/Package: 0603; China RoHS: Non-Compliant; Composition: Thick Film; Features: Anti-Sulfur, Moisture Resistant; Height: 450µm; Length: 1.6002mm; Lifecycle Status: Production; Max Operating Temperature: 155°C; Min Operating Temperature: -55°C; Mounting Technology: Surface Mount; Number of Terminals: 2; Number of Terminations: 2; Packaging: Tape & Reel; Power Dissipation: 100mW; Power Rating: 100mW; REACH SVHC: Yes; Tolerance: 1%; Width: 800µm; Working Voltage: 75V; ComponentLink1URL: https://datasheet.octopart.com:443/AF0603FR-0739KL-Yageo-datasheet-182189395.pdf?src-supplier=IHS; ComponentLink1Description: https://datasheet.octopart.com:443/AF0603FR-0739KL-Yageo-datasheet-182189395.pdf?src-supplier=IHS; ComponentLink2URL: https://datasheet.octopart.com:443/AF0603FR-0739KL-Yageo-datasheet-153645569.pdf?src-supplier=Upverter; ComponentLink2Description: https://datasheet.octopart.com:443/AF0603FR-0739KL-Yageo-datasheet-153645569.pdf?src-supplier=Upverter; ComponentLink3URL: https://sigma.octopart.com:443/138820526/technical_drawing/Yageo-AF0603FR-0739KL.pdf?src-supplier=Upverter; ComponentLink3Description: https://sigma.octopart.com:443/138820526/technical_drawing/Yageo-AF0603FR-0739KL.pdf?src-supplier=Upverter; ComponentLink4URL: https://datasheet.octopart.com:443/AF0603FR-0739KL-Yageo-datasheet-164730775.pdf?src-supplier=Future+Electronics; ComponentLink4Description: https://datasheet.octopart.com:443/AF0603FR-0739KL-Yageo-datasheet-164730775.pdf?src-supplier=Future+Electronics; ComponentLink5URL: https://datasheet.octopart.com/AF0603FR-0739KL-Yageo-datasheet-68296209.pdf; ComponentLink5Description: https://datasheet.octopart.com/AF0603FR-0739KL-Yageo-datasheet-68296209.pdf; ComponentLink6URL: http://sigma.octopart.com:80/rohs_statement/Yageo-company-2.pdf?src-supplier=Compliance+Statements; ComponentLink6Description: http://sigma.octopart.com:80/rohs_statement/Yageo-company-2.pdf?src-supplier=Compliance+Statements; ComponentLink7URL: http://sigma.octopart.com:80/conflict_mineral_statement/Yageo-company-3.pdf?src-supplier=Compliance+Statements; ComponentLink7Description: http://sigma.octopart.com:80/conflict_mineral_statement/Yageo-company-3.pdf?src-supplier=Compliance+Statements
footprint R0603 (Chip Resistor, 2-Leads, Body 1.75x0.95mm)
pins: 1, 2

## RES0603-45.3k-0.1%
designator R?
RES SMD 45.3KOHM 0.1% 1/10W 0603; Manufacturer: Panasonic; Manufacturer Part Number: ERA-3AEB4532V; Resistance: 45.3kR; Value: 45.3kR; Power Rating: 100mW; Temperature Coefficient: 25ppm/°C; Voltage Rating (DC): 75V; Supplier: Digikey; Supplier Part Number: P45.3KDBCT-ND; RoHS: Yes; Category: Chip SMD Resistors; Stock: 22712; Pricing: 1=0,1, 10=0,061, 50=0,0536, 100=0,0506, 500=0,04438, 1000=0,04206 (USD); Mounting Technology: Surface Mount; Case/Package: 0603; Pins: 2; Case Code (Metric): 1608; Case Code (Imperial): 0603; Contact Plating: Tin; Min Operating Temperature: -55°C; Max Operating Temperature: 155°C; Tolerance: 0.1%; Voltage Rating: 75V; Packaging: Tape and Reel; Number of Terminations: 2; Termination: SMD/SMT; Max Power Dissipation: 100mW; Series: ERA-3A; Features: Automotive AEC-Q200; Package Quantity: 5000; Resistor Type: Thin Film; Technology: METAL FILM; Resistance Tolerance: 0.1%; Length: 1.6mm; Width: 0.8mm; Height: 0.45mm; Depth: 0.8mm; Ratings: AEC-Q200; Lead Free: Lead Free; ComponentLink1URL: https://datasheet.ciiva.com/11810/0900766b80eb1d8c-11810518.pdf?src-supplier=Rs; ComponentLink1Description: https://datasheet.ciiva.com/11810/0900766b80eb1d8c-11810518.pdf?src-supplier=Rs; ComponentLink2URL: https://datasheet.ciiva.com/6201/485442-6201037.pdf?src-supplier=Farnell; ComponentLink2Description: https://datasheet.ciiva.com/6201/485442-6201037.pdf?src-supplier=Farnell; ComponentLink3URL: https://datasheet.ciiva.com/9189/aoa0000ce26-9189468.pdf?src-supplier=Avnet; ComponentLink3Description: https://datasheet.ciiva.com/9189/aoa0000ce26-9189468.pdf?src-supplier=Avnet; ComponentLink4URL: https://datasheet.ciiva.com/6201/485442-6201031.pdf?src-supplier=Farnell; ComponentLink4Description: https://datasheet.ciiva.com/6201/485442-6201031.pdf?src-supplier=Farnell; ComponentLink5URL: https://datasheet.ciiva.com/6201/485442-6201033.pdf?src-supplier=Farnell; ComponentLink5Description: https://datasheet.ciiva.com/6201/485442-6201033.pdf?src-supplier=Farnell; ComponentLink6URL: https://datasheet.ciiva.com/41450/001180911-da-01-en-widerstand-era-0603-45k3-0-1-5000st-41450230.pdf?src-supplier=Conrad; ComponentLink6Description: https://datasheet.ciiva.com/41450/001180911-da-01-en-widerstand-era-0603-45k3-0-1-5000st-41450230.pdf?src-supplier=Conrad; Supplier 1: Digikey; Supplier Part Number 1: P45.3KDBCT-ND
footprint R0603 (Chip Resistor, 2-Leads, Body 1.75x0.95mm)
pins: 1, 2